# EAGLE library part ARDUINO-PRO-MINI-5V-328P (library cmmc_lbr1)
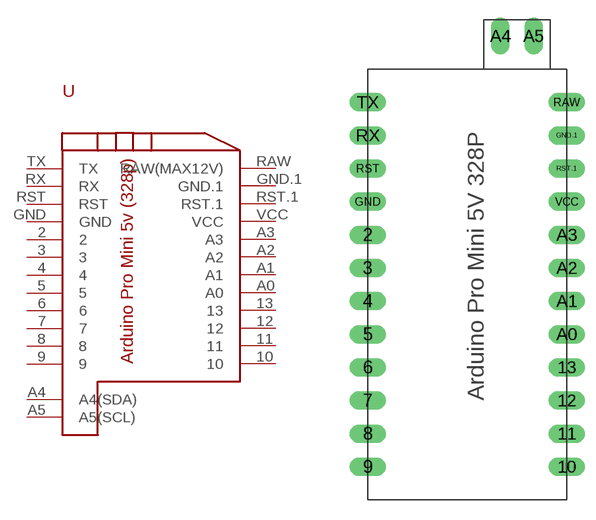
[diagram p0: symbol with the pads of ARDUINO-PRO-MINIV1; footprint ARDUINO-PRO-MINIV1]

Designator prefix -

## ARDUINO-PRO-MINI-5V-328P  [ARDUINO-PRO-MINIV1]
2  2
3  3
4  4
5  5
6  6
7  7
8  8
9  9
10  10
11  11
12  12
13  13
A0  A0
A1  A1
A2  A2
A3  A3
A4  A4(SDA)
A5  A5(SCL)
GND  GND
GND.1  GND.1
RAW  RAW(MAX12V)
RST  RST
RST.1  RST.1
RX  RX
TX  TX
VCC  VCC

## Footprint ARDUINO-PRO-MINIV1 (pad centres in mm)
drill 0.9 pad 1.27 long: 2 -16.51,-3.81; 3 -16.51,-6.35; 4 -16.51,-8.89; 5 -16.51,-11.43; 6 -16.51,-13.97; 7 -16.51,-16.51; 8 -16.51,-19.05; 9 -16.51,-21.59; 10 -1.27,-21.59; 11 -1.27,-19.05; 12 -1.27,-16.51; 13 -1.27,-13.97; A0 -1.27,-11.43; A1 -1.27,-8.89; A2 -1.27,-6.35; A3 -1.27,-3.81; A4 -6.35,11.43; A5 -3.81,11.43; GND -16.51,-1.27; GND.1 -1.27,3.81; RAW -1.27,6.35; RST -16.51,1.27; RST.1 -1.27,1.27; RX -16.51,3.81; TX -16.51,6.35; VCC -1.27,-1.27